# Altium schematic symbol library OPA693.SchLib: 1 symbol
Pins are listed as number, name and electrical type; pins without a type are passive.

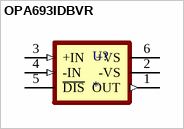
[diagram p0: symbol OPA693IDBVR]

## OPA693IDBVR
designator U?
Ultra-Wideband, Fixed Gain Video Buffer Amplifier with Disable; MP: OPA693IDBVR; MF: Texas Instruments; Availability: In Stock; Package: SOT-23-6 Texas Instruments; Value: *; Purchase-URL: https://pricing.snapeda.com/search/part/OPA693IDBVR/?ref=eda; SnapEDA_Link: https://www.snapeda.com/parts/OPA693IDBVR/Texas+Instruments/view-part/?ref=snap; Price: None; Check_prices: https://www.snapeda.com/parts/OPA693IDBVR/Texas+Instruments/view-part/?ref=eda
footprint SOT95P280X145-6N
pins: 1 OUT (out), 2 -VS (power), 3 +IN (in), 4 -IN (in), 5 ~{DIS}, 6 +VS (power)